# EAGLE library part ATMEGA16 (library chuong)
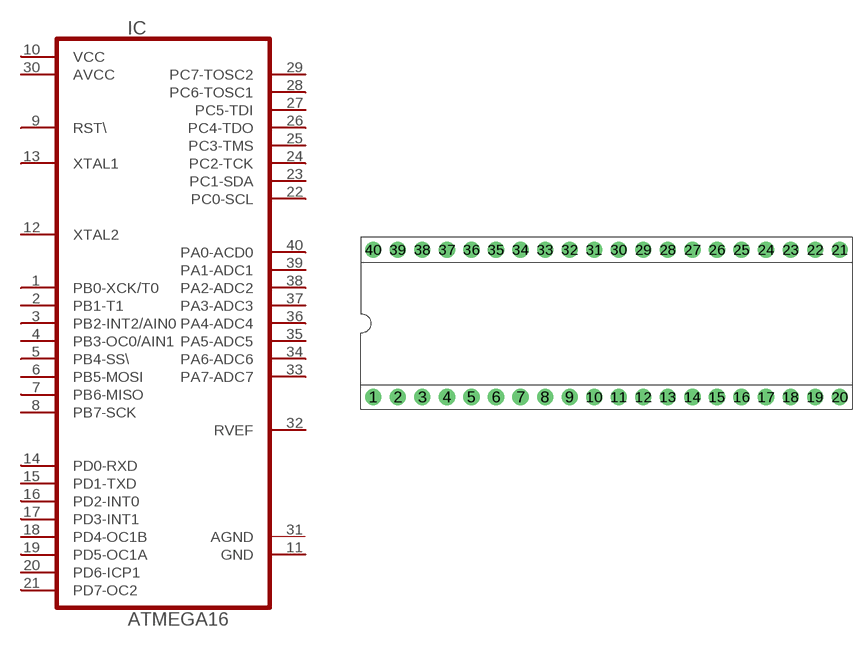
[diagram p74: symbol with the pads of DIL-40; footprint DIL-40]

Designator prefix IC

## ATMEGA16  [DIL-40]
1  PB0-XCK/T0
2  PB1-T1
3  PB2-INT2/AIN0
4  PB3-OC0/AIN1
5  PB4-SS\
6  PB5-MOSI
7  PB6-MISO
8  PB7-SCK
9  RST\  in
10  VCC  pwr
11  GND  out
12  XTAL2  in
13  XTAL1  in
14  PD0-RXD
15  PD1-TXD
16  PD2-INT0
17  PD3-INT1
18  PD4-OC1B
19  PD5-OC1A
20  PD6-ICP1
21  PD7-OC2
22  PC0-SCL
23  PC1-SDA
24  PC2-TCK
25  PC3-TMS
26  PC4-TDO
27  PC5-TDI
28  PC6-TOSC1
29  PC7-TOSC2
30  AVCC  in
31  AGND  pwr
32  RVEF  out
33  PA7-ADC7
34  PA6-ADC6
35  PA5-ADC5
36  PA4-ADC4
37  PA3-ADC3
38  PA2-ADC2
39  PA1-ADC1
40  PA0-ACD0

## Footprint DIL-40 (pad centres in mm)
drill 0.61 pad 1.676 round: 1 -22.86,-7.62; 2 -20.32,-7.62; 3 -17.78,-7.62; 4 -15.24,-7.62; 5 -12.7,-7.62; 6 -10.16,-7.62; 7 -7.62,-7.62; 8 -5.08,-7.62; 9 -2.54,-7.62; 10 0,-7.62; 11 2.54,-7.62; 12 5.08,-7.62; 13 7.62,-7.62; 14 10.16,-7.62; 15 12.7,-7.62; 16 15.24,-7.62; 17 17.78,-7.62; 18 20.32,-7.62; 19 22.86,-7.62; 20 25.4,-7.62; 21 25.4,7.62; 22 22.86,7.62; 23 20.32,7.62; 24 17.78,7.62; 25 15.24,7.62; 26 12.7,7.62; 27 10.16,7.62; 28 7.62,7.62; 29 5.08,7.62; 30 2.54,7.62; 31 0,7.62; 32 -2.54,7.62; 33 -5.08,7.62; 34 -7.62,7.62; 35 -10.16,7.62; 36 -12.7,7.62; 37 -15.24,7.62; 38 -17.78,7.62; 39 -20.32,7.62; 40 -22.86,7.62